# Altium integrated library Cypress Peripheral Bus Interface Controller.IntLib: 40 symbols (part 3 of 3)
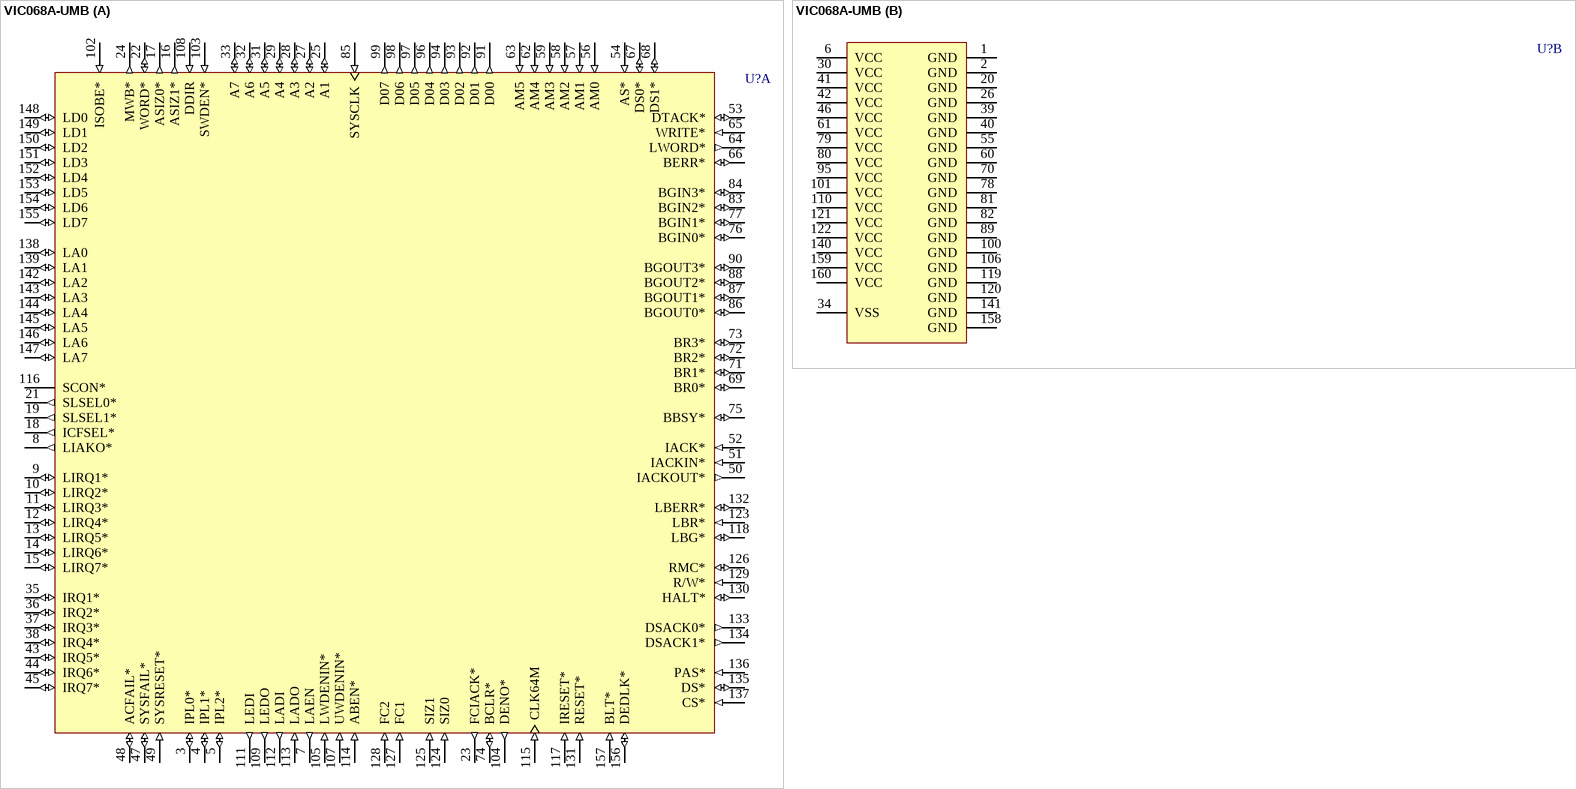
[diagram p21: symbol VIC068A-UMB]

## VIC068A-UMB
designator U?
VMEbus Interface Controller; Published: 11-Dec-2002; LatestRevisionDate: 13-Apr-2006; LatestRevisionNote: IPC-7351 Footprint Added.; DatasheetVersion: 23-Jul-1997; PackageVersion: Dec-2000; PackageReference: U162; Publisher: Altium Limited; PackageDescription: 160-Pin Ceramic Cavity Up Quad Flat Pack 0.65 mm Pitch; ComponentLink1Description: Manufacturer Link; ComponentLink1URL: http://www.cypress.com/
footprint U162_N (QFP, 160-Leads, Body 28 x 28mm, Pitch 0.65mm, IPC Medium Density)
footprint U162_L (QFP, 160-Leads, Body 28 x 28mm, Pitch 0.65mm, IPC High Density)
footprint U162_M (QFP, 160-Leads, Body 28 x 28mm, Pitch 0.65mm, IPC Low Density)
3D model VIC068A-U162 (160-Pin Ceramic Cavity Up Quad Flat Pack 0.65 mm Pitch)
part A pins: 3 IPL0* (io), 4 IPL1* (io), 5 IPL2* (io), 7 LAEN (out), 8 LIAKO* (out), 9 LIRQ1* (io), 10 LIRQ2* (io), 11 LIRQ3* (io), 12 LIRQ4* (io), 13 LIRQ5* (io), 14 LIRQ6* (io), 15 LIRQ7* (io), 16 ASIZ1* (out), 17 ASIZ0* (out), 18 ICFSEL* (out), 19 SLSEL1* (out), 21 SLSEL0* (out), 22 WORD* (io), 23 FCIACK* (out), 24 MWB* (out), 25 A1 (io), 27 A2 (io), 28 A3 (io), 29 A4 (io), 31 A5 (io), 32 A6 (io), 33 A7 (io), 35 IRQ1* (io), 36 IRQ2* (io), 37 IRQ3* (io), 38 IRQ4* (io), 43 IRQ5* (io), 44 IRQ6* (io), 45 IRQ7* (io), 47 SYSFAIL* (io), 48 ACFAIL* (io), 49 SYSRESET* (in), 50 IACKOUT* (out), 51 IACKIN* (in), 52 IACK* (in), 53 DTACK* (io), 54 AS* (in), 56 AM0 (in), 57 AM1 (in), 58 AM2 (in), 59 AM3 (in), 62 AM4 (in), 63 AM5 (in), 64 LWORD* (out), 65 WRITE* (in), 66 BERR* (io), 67 DS0* (io), 68 DS1* (io), 69 BR0* (io), 71 BR1* (io), 72 BR2* (io), 73 BR3* (io), 74 BCLR* (io), 75 BBSY* (io), 76 BGIN0* (io), 77 BGIN1* (io), 83 BGIN2* (io), 84 BGIN3* (io), 85 SYSCLK (in), 86 BGOUT0* (io), 87 BGOUT1* (io), 88 BGOUT2* (io), 90 BGOUT3* (io), 91 D00 (out), 92 D01 (out), 93 D02 (out), 94 D03 (out), 96 D04 (out), 97 D05 (out), 98 D06 (out), 99 D07 (out), 102 ISOBE* (in), 103 SWDEN* (in), 104 DENO* (out), 105 LWDENIN* (in), 107 UWDENIN* (in), 108 DDIR (in), 109 LEDO (out), 111 LEDI (out), 112 LADI (out), 113 LADO (in), 114 ABEN* (in), 115 CLK64M (in), 116 SCON*, 117 IRESET* (in), 118 LBG* (io), 123 LBR* (in), 124 SIZ0 (in), 125 SIZ1 (in), 126 RMC* (io), 127 FC1 (in), 128 FC2 (in), 129 R/W* (in), 130 HALT* (io), 131 RESET* (in), 132 LBERR* (io), 133 DSACK0* (out), 134 DSACK1* (out), 135 DS* (io), 136 PAS* (in), 137 CS* (in), 138 LA0 (io), 139 LA1 (io), 142 LA2 (io), 143 LA3 (io), 144 LA4 (io), 145 LA5 (io), 146 LA6 (io), 147 LA7 (io), 148 LD0 (io), 149 LD1 (io), 150 LD2 (io), 151 LD3 (io), 152 LD4 (io), 153 LD5 (io), 154 LD6 (io), 155 LD7 (io), 156 DEDLK* (io), 157 BLT* (in)
part B pins: 1 GND (power), 2 GND (power), 6 VCC (power), 20 GND (power), 26 GND (power), 30 VCC (power), 34 VSS (power), 39 GND (power), 40 GND (power), 41 VCC (power), 42 VCC (power), 46 VCC (power), 55 GND (power), 60 GND (power), 61 VCC (power), 70 GND (power), 78 GND (power), 79 VCC (power), 80 VCC (power), 81 GND (power), 82 GND (power), 89 GND (power), 95 VCC (power), 100 GND (power), 101 VCC (power), 106 GND (power), 110 VCC (power), 119 GND (power), 120 GND (power), 121 VCC (power), 122 VCC (power), 140 VCC (power), 141 GND (power), 158 GND (power), 159 VCC (power), 160 VCC (power)